# EAGLE library part LP38690SD-3.3/NOPB (library 32bits)
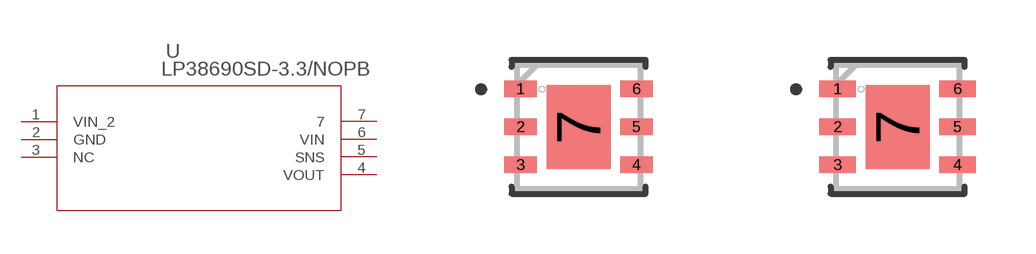
[diagram p6: symbol with the pads of SDE06A; footprints SDE06A, SDE06A-M]

Designator prefix -

## LP38690SD-3.3/NOPB (MANUFACTURER_PART_NUMBER: LP38690SD3.3NOPB; VENDOR: National Semiconductor)  [SDE06A]
1  VIN_2  in
2  GND  pas
3  NC  pas
4  VOUT  out
5  SNS  pas
6  VIN  in
7  7  pas

## LP38690SD-3.3/NOPBSDE06A-M (MANUFACTURER_PART_NUMBER: LP38690SD3.3NOPB; VENDOR: National Semiconductor)  [SDE06A-M]
Pads as for SDE06A

## LP38690SD-3.3/NOPBSDE06A-L (MANUFACTURER_PART_NUMBER: LP38690SD3.3NOPB; VENDOR: National Semiconductor)  [SDE06A-L]
Pads as for SDE06A

## Footprint SDE06A (pad centres in mm)
smd 0.813 x 0.406: 1 -1.448,0.95; 2 -1.448,0; 3 -1.448,-0.95; 4 1.448,-0.95; 5 1.448,0; 6 1.448,0.95
smd 1.6 x 2.1: 7 0,0

## Footprint SDE06A-M (pad centres in mm)
smd 0.914 x 0.406: 1 -1.499,0.95; 2 -1.499,0; 3 -1.499,-0.95; 4 1.499,-0.95; 5 1.499,0; 6 1.499,0.95
smd 1.6 x 2.1: 7 0,0

## Footprint SDE06A-L (pad centres in mm)
smd 0.711 x 0.406: 1 -1.397,0.95; 2 -1.397,0; 3 -1.397,-0.95; 4 1.397,-0.95; 5 1.397,0; 6 1.397,0.95
smd 1.6 x 2.1: 7 0,0